# Altium integrated library Battery Holder.IntLib: 1 symbol
Pins are listed as number, name and electrical type; pins without a type are passive.

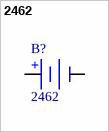
[diagram p0: symbol 2462]

## 2462
designator B?
HOLDER BATTERY 2CELL AA PC MNT; Manufacturer: Keystone Electronics; Battery Type, Function: Cylindrical, Holder; Style: Holder (Open); Number Of Cells: 2; Part Number: 2462; PartId: 10872; Supplier 1: Digi-Key; Supplier Part Number 1: 36-2462-ND; ComponentLink1Description: Datasheet; ComponentLink1URL: http://www.keyelco.com/product-pdf.cfm?p=1027; ComponentLink2Description: Digi-Key Listing; ComponentLink2URL: http://www.digikey.ca/product-detail/en/keystone-electronics/2462/36-2462-ND/303811; Price: 2.27; Type: Battery Holders, Clips, Contacts; Series: -; Battery Cell Size: AA; Battery Series: -; Termination Style: PC Pin
footprint KEYSTONE 2462
pins: 1 +, 2 -